# Altium footprint library CS_PcbLib1.PcbLib: 48 footprints (part 1 of 3)
Each footprint in its own frame and in the unit in brackets; x right, y up, seen from the top. Pads: shape width x height; smd on the part's side, far side on the other; paste and mask are expansions set on the pad; w line width, h text height; cw(c..) or ccw(c..) is an arc to the next point about the centre after c.
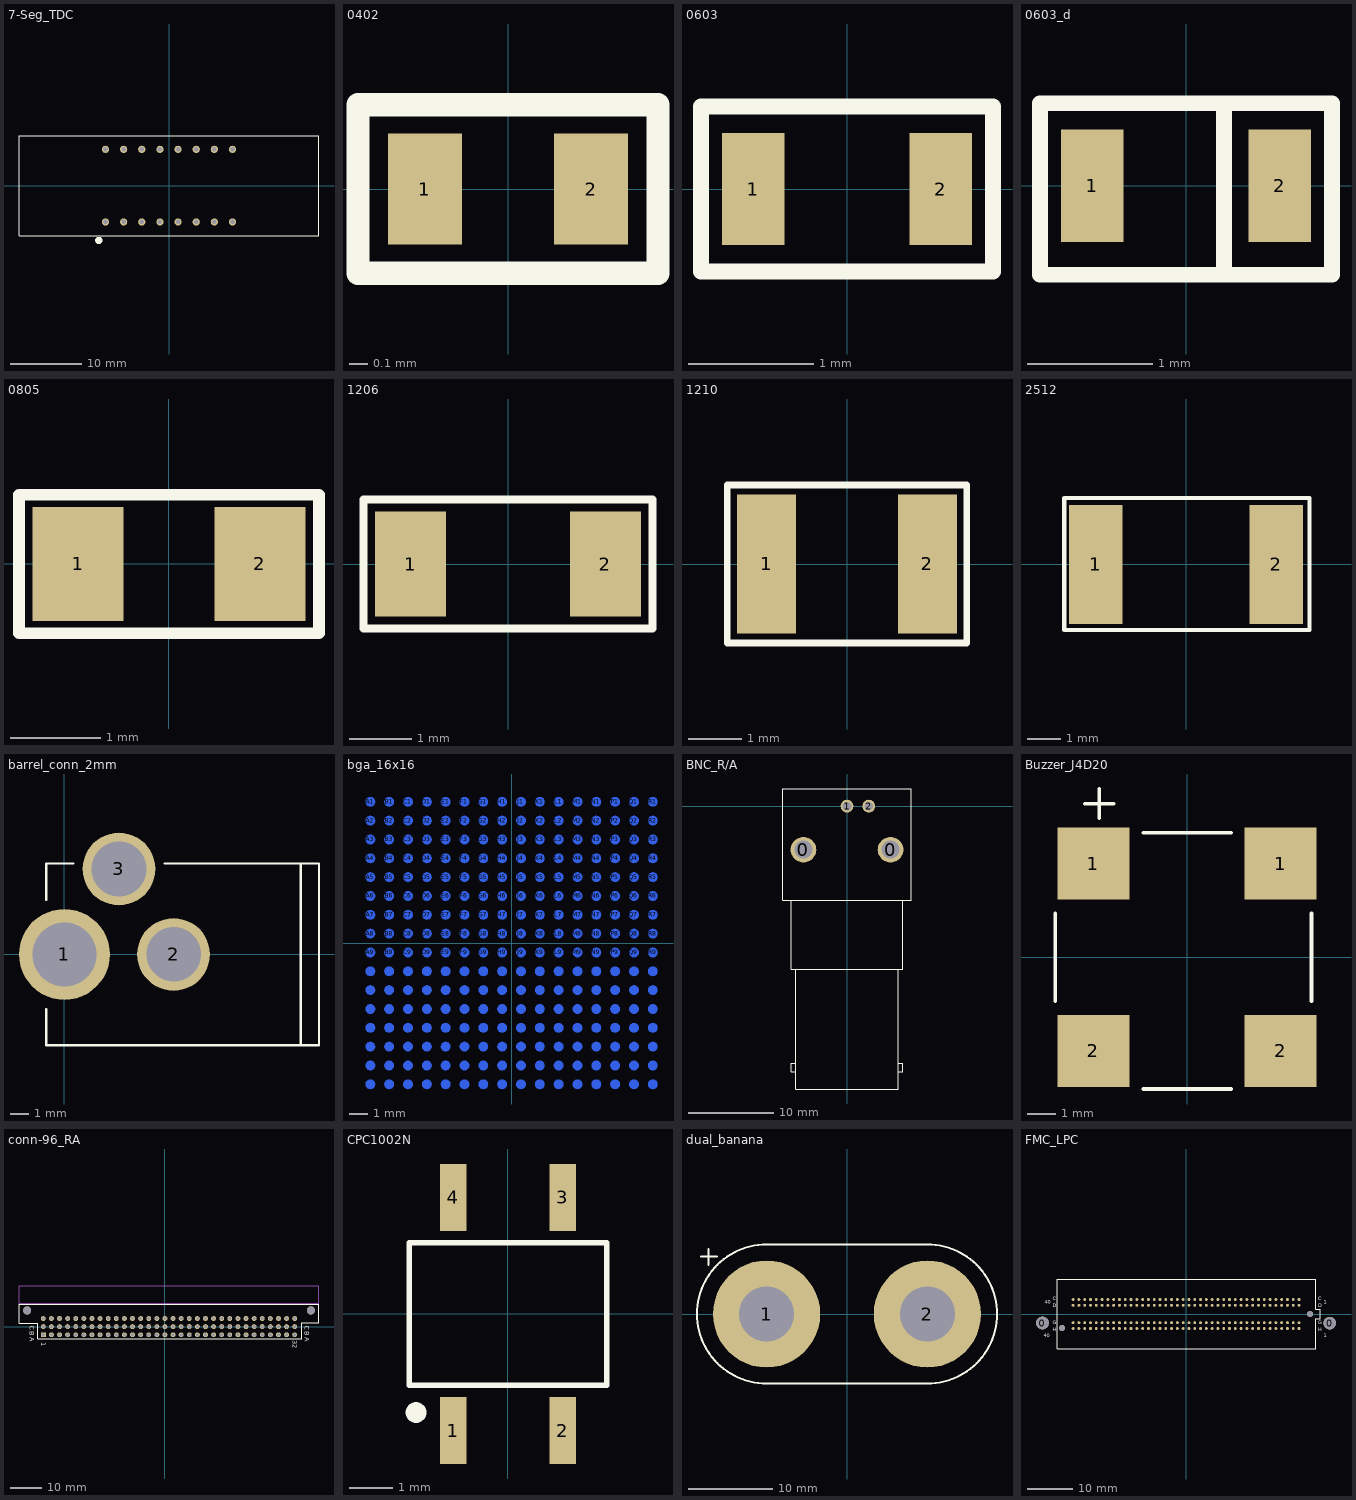
[diagram p0: the footprints below, top view; thin cyan lines are the x and y axes]

## 7-Seg_TDC [mil] "7-segment clock display Vishay TDC series"
pads (16):
  round 40 hole 25: 1(-350,-200) 2(-250,-200) 3(-150,-200) 4(-50,-200) 5(50,-200) 6(150,-200) 7(250,-200) 8(350,-200) 9(350,200) 10(250,200) 11(150,200) 12(50,200) 13(-50,200) 14(-150,200) 15(-250,200) 16(-350,200)
Top Overlay:
  circle w19.68: c-387,-302 r10.44
  lines w5: -826.77,-275.59 -826.77,275.59 826.77,275.59 826.77,-275.59 -826.77,-275.59

## 0402 [mm] "0402 smt"
pads (2):
  rect 0.4x0.6 smd: 1(-0.45,0) 2(0.45,0)
Top Overlay:
  lines w0.127: -0.813,-0.457 0.813,-0.457 0.813,0.457 -0.813,0.457 -0.813,-0.457

## 0603 [mm] "0603 smt"
pads (2):
  rect 0.5x0.9 smd: 1(-0.75,0) 2(0.75,0)
Top Overlay:
  lines w0.127: -1.168,-0.66 -1.168,0.66 1.168,0.66 1.168,-0.66 -1.168,-0.66

## 0603_d [mm] "0603 diode, cathode on pin2"
pads (2):
  rect 0.5x0.9 smd: 1(-0.75,0) 2(0.75,0)
Top Overlay:
  lines w0.127: 0.305,-0.711 0.305,0.66 ; -1.168,-0.711 -1.168,0.66 1.168,0.66 1.168,-0.711 -1.168,-0.711

## 0805 [mm] "chip resistor 0805 case size"
pads (2):
  rect 1x1.25 smd: 1(-1,0) 2(1,0)
Top Overlay:
  lines w0.127: -1.651,-0.762 -1.651,0.762 1.651,0.762 1.651,-0.762 -1.651,-0.762

## 1206 [mm] "chip resistor 1206 case size"
pads (2):
  rect 1.15x1.7 smd: 1(-1.575,0) 2(1.575,0)
Top Overlay:
  lines w0.127: -2.337,-1.041 -2.337,1.041 2.337,1.041 2.337,-1.041 -2.337,-1.041

## 1210 [mm] "Chip Resistor, Body 3.2x2.5mm, IPC High Density"
height 0.9
pads (2):
  rect 1.1x2.6 smd: 1(-1.5,0) 2(1.5,0)
Top Overlay:
  lines w0.127: -2.235,-1.473 2.235,-1.473 2.235,1.473 -2.235,1.473 -2.235,-1.473

## 2512 [mil] "Chip Capacitor, Body 2.54x1.27mm, IPC High Density"
height 51.18
pads (2):
  rect 63x140 smd: 1(-106,0) 2(106,0)
Top Overlay:
  lines w5: -143,-77 -143,78 145,78 145,-77 -143,-77

## barrel_conn_2mm [mm] "Power Barrel connector Jack 2.0mm ID, 5.5mm OD"
pads (3):
  round 5 hole 3.5 unplated mask+0: 1(0,0)
  round 4 hole 3 unplated mask+0: 2(6,0) 3(3,4.7)
Top Overlay:
  lines w0.127: -1,-3 -1,-5 14,-5 14,5 5.5,5 ; -1,3 -1,5 0.5,5 ; 13,-5 13,5

## bga_16x16 [mm] "pads to be balled on bottom side of die breakout board"
pads (256):
  round 0.5 smd far side: A1(-7.5,7.5) A2(-7.5,6.5) A3(-7.5,5.5) A4(-7.5,4.5) A5(-7.5,3.5) A6(-7.5,2.5) A7(-7.5,1.5) A8(-7.5,0.5) A9(-7.5,-0.5) A10(-7.5,-1.5) A11(-7.5,-2.5) A12(-7.5,-3.5) A13(-7.5,-4.5) A14(-7.5,-5.5) A15(-7.5,-6.5) A16(-7.5,-7.5) B1(-6.5,7.5) B2(-6.5,6.5) B3(-6.5,5.5) B4(-6.5,4.5) B5(-6.5,3.5) B6(-6.5,2.5) B7(-6.5,1.5) B8(-6.5,0.5) B9(-6.5,-0.5) B10(-6.5,-1.5) B11(-6.5,-2.5) B12(-6.5,-3.5) B13(-6.5,-4.5) B14(-6.5,-5.5) B15(-6.5,-6.5) B16(-6.5,-7.5) C1(-5.5,7.5) C2(-5.5,6.5) C3(-5.5,5.5) C4(-5.5,4.5) C5(-5.5,3.5) C6(-5.5,2.5) C7(-5.5,1.5) C8(-5.5,0.5) C9(-5.5,-0.5) C10(-5.5,-1.5) C11(-5.5,-2.5) C12(-5.5,-3.5) C13(-5.5,-4.5) C14(-5.5,-5.5) C15(-5.5,-6.5) C16(-5.5,-7.5) D1(-4.5,7.5) D2(-4.5,6.5) D3(-4.5,5.5) D4(-4.5,4.5) D5(-4.5,3.5) D6(-4.5,2.5) D7(-4.5,1.5) D8(-4.5,0.5) D9(-4.5,-0.5) D10(-4.5,-1.5) D11(-4.5,-2.5) D12(-4.5,-3.5) D13(-4.5,-4.5) D14(-4.5,-5.5) D15(-4.5,-6.5) D16(-4.5,-7.5) E1(-3.5,7.5) E2(-3.5,6.5) E3(-3.5,5.5) E4(-3.5,4.5) E5(-3.5,3.5) E6(-3.5,2.5) E7(-3.5,1.5) E8(-3.5,0.5) E9(-3.5,-0.5) E10(-3.5,-1.5) E11(-3.5,-2.5) E12(-3.5,-3.5) E13(-3.5,-4.5) E14(-3.5,-5.5) E15(-3.5,-6.5) E16(-3.5,-7.5) F1(-2.5,7.5) F2(-2.5,6.5) F3(-2.5,5.5) F4(-2.5,4.5) F5(-2.5,3.5) F6(-2.5,2.5) F7(-2.5,1.5) F8(-2.5,0.5) F9(-2.5,-0.5) F10(-2.5,-1.5) F11(-2.5,-2.5) F12(-2.5,-3.5) F13(-2.5,-4.5) F14(-2.5,-5.5) F15(-2.5,-6.5) F16(-2.5,-7.5) G1(-1.5,7.5) G2(-1.5,6.5) G3(-1.5,5.5) G4(-1.5,4.5) G5(-1.5,3.5) G6(-1.5,2.5) G7(-1.5,1.5) G8(-1.5,0.5) G9(-1.5,-0.5) G10(-1.5,-1.5) G11(-1.5,-2.5) G12(-1.5,-3.5) G13(-1.5,-4.5) G14(-1.5,-5.5) G15(-1.5,-6.5) G16(-1.5,-7.5) H1(-0.5,7.5) H2(-0.5,6.5) H3(-0.5,5.5) H4(-0.5,4.5) H5(-0.5,3.5) H6(-0.5,2.5) H7(-0.5,1.5) H8(-0.5,0.5) H9(-0.5,-0.5) H10(-0.5,-1.5) H11(-0.5,-2.5) H12(-0.5,-3.5) H13(-0.5,-4.5) H14(-0.5,-5.5) H15(-0.5,-6.5) H16(-0.5,-7.5) J1(0.5,7.5) J2(0.5,6.5) J3(0.5,5.5) J4(0.5,4.5) J5(0.5,3.5) J6(0.5,2.5) J7(0.5,1.5) J8(0.5,0.5) J9(0.5,-0.5) J10(0.5,-1.5) J11(0.5,-2.5) J12(0.5,-3.5) J13(0.5,-4.5) J14(0.5,-5.5) J15(0.5,-6.5) J16(0.5,-7.5) K1(1.5,7.5) K2(1.5,6.5) K3(1.5,5.5) K4(1.5,4.5) K5(1.5,3.5) K6(1.5,2.5) K7(1.5,1.5) K8(1.5,0.5) K9(1.5,-0.5) K10(1.5,-1.5) K11(1.5,-2.5) K12(1.5,-3.5) K13(1.5,-4.5) K14(1.5,-5.5) K15(1.5,-6.5) K16(1.5,-7.5) L1(2.5,7.5) L2(2.5,6.5) L3(2.5,5.5) L4(2.5,4.5) L5(2.5,3.5) L6(2.5,2.5) L7(2.5,1.5) L8(2.5,0.5) L9(2.5,-0.5) L10(2.5,-1.5) L11(2.5,-2.5) L12(2.5,-3.5) L13(2.5,-4.5) L14(2.5,-5.5) L15(2.5,-6.5) L16(2.5,-7.5) M1(3.5,7.5) M2(3.5,6.5) M3(3.5,5.5) M4(3.5,4.5) M5(3.5,3.5) M6(3.5,2.5) M7(3.5,1.5) M8(3.5,0.5) M9(3.5,-0.5) M10(3.5,-1.5) M11(3.5,-2.5) M12(3.5,-3.5) M13(3.5,-4.5) M14(3.5,-5.5) M15(3.5,-6.5) M16(3.5,-7.5) N1(4.5,7.5) N2(4.5,6.5) N3(4.5,5.5) N4(4.5,4.5) N5(4.5,3.5) N6(4.5,2.5) N7(4.5,1.5) N8(4.5,0.5) N9(4.5,-0.5) N10(4.5,-1.5) N11(4.5,-2.5) N12(4.5,-3.5) N13(4.5,-4.5) N14(4.5,-5.5) N15(4.5,-6.5) N16(4.5,-7.5) P1(5.5,7.5) P2(5.5,6.5) P3(5.5,5.5) P4(5.5,4.5) P5(5.5,3.5) P6(5.5,2.5) P7(5.5,1.5) P8(5.5,0.5) P9(5.5,-0.5) P10(5.5,-1.5) P11(5.5,-2.5) P12(5.5,-3.5) P13(5.5,-4.5) P14(5.5,-5.5) P15(5.5,-6.5) P16(5.5,-7.5) Q1(6.5,7.5) Q2(6.5,6.5) Q3(6.5,5.5) Q4(6.5,4.5) Q5(6.5,3.5) Q6(6.5,2.5) Q7(6.5,1.5) Q8(6.5,0.5) Q9(6.5,-0.5) Q10(6.5,-1.5) Q11(6.5,-2.5) Q12(6.5,-3.5) Q13(6.5,-4.5) Q14(6.5,-5.5) Q15(6.5,-6.5) Q16(6.5,-7.5) R1(7.5,7.5) R2(7.5,6.5) R3(7.5,5.5) R4(7.5,4.5) R5(7.5,3.5) R6(7.5,2.5) R7(7.5,1.5) R8(7.5,0.5) R9(7.5,-0.5) R10(7.5,-1.5) R11(7.5,-2.5) R12(7.5,-3.5) R13(7.5,-4.5) R14(7.5,-5.5) R15(7.5,-6.5) R16(7.5,-7.5)
Bottom Overlay:
  lines w0.178: -8.13,6.21 -8.13,8.18 -5.88,8.18

## BNC_R/A [mm] "Right Angle BNC Connector PCB Mount"
pads (4):
  round 3 hole 2.1 unplated mask+0: 0(-5.08,-5.08) 0(5.08,-5.08)
  round 1.5 hole 1 unplated mask+0: 1(0,0) 2(2.54,0)
Top Overlay:
  lines w0.127: -6.5,-11 -6.5,-19 6.5,-19 6.5,-11 ; -6,-31 -6.5,-31 -6.5,-30 -6,-30 ; -6,-19 -6,-33 6,-33 6,-19 ; 6,-31 6.5,-31 6.5,-30 6,-30 ; -7.5,-11 7.5,-11 7.5,2 -7.5,2 -7.5,-11

## Buzzer_J4D20 [mm] "AUDIO MAGNETIC XDCR 3-5V SMD"
pads (4):
  rect 2.5x2.5 smd: 1(-3.25,3.25) 1(3.25,3.25) 2(-3.25,-3.25) 2(3.25,-3.25)
Top Overlay:
  lines w0.127: -4.572,-1.524 -4.572,1.524 ; -3.556,5.334 -2.54,5.334 ; -3.048,4.826 -3.048,5.842 ; -1.524,-4.572 1.524,-4.572 ; -1.524,4.318 1.524,4.318 ; 4.318,-1.524 4.318,1.524

## conn-96_RA [mil] "96-pin connector, 3 rows, right angle"
pads (98):
  rect 60x60 hole 40: A1(-1500,-100)
  round 60 hole 40: A2(-1400,-100) A3(-1300,-100) A4(-1200,-100) A5(-1100,-100) A6(-1000,-100) A7(-900,-100) A8(-800,-100) A9(-700,-100) A10(-600,-100) A11(-500,-100) A12(-400,-100) A13(-300,-100) A14(-200,-100) A15(-100,-100) A16(0,-100) A17(100,-100) A18(200,-100) A19(300,-100) A20(400,-100) A21(500,-100) A22(600,-100) A23(700,-100) A24(800,-100) A25(900,-100) A26(1000,-100) A27(1100,-100) A28(1200,-100) A29(1300,-100) A30(1400,-100) A31(1500,-100) A32(1600,-100) B1(-1500,0) B2(-1400,0) B3(-1300,0) B4(-1200,0) B5(-1100,0) B6(-1000,0) B7(-900,0) B8(-800,0) B9(-700,0) B10(-600,0) B11(-500,0) B12(-400,0) B13(-300,0) B14(-200,0) B15(-100,0) B16(0,0) B17(100,0) B18(200,0) B19(300,0) B20(400,0) B21(500,0) B22(600,0) B23(700,0) B24(800,0) B25(900,0) B26(1000,0) B27(1100,0) B28(1200,0) B29(1300,0) B30(1400,0) B31(1500,0) B32(1600,0) C1(-1500,100) C2(-1400,100) C3(-1300,100) C4(-1200,100) C5(-1100,100) C6(-1000,100) C7(-900,100) C8(-800,100) C9(-700,100) C10(-600,100) C11(-500,100) C12(-400,100) C13(-300,100) C14(-200,100) C15(-100,100) C16(0,100) C17(100,100) C18(200,100) C19(300,100) C20(400,100) C21(500,100) C22(600,100) C23(700,100) C24(800,100) C25(900,100) C26(1000,100) C27(1100,100) C28(1200,100) C29(1300,100) C30(1400,100) C31(1500,100) C32(1600,100)
  round 100 hole 100: C33(-1700,200) C34(1800,200)
Top Overlay:
  lines w10: -1800,40 -1800,275 1900,275 1900,50 1690,50 1690,-150 1650,-150 -1570,-150 -1570,40 -1800,40
  text "C" at 1726,10 h60
  text "B" at 1726,-59 h60
  text "A" at 1726,-133 h60
  text "A" at -1666,-132 h60
  text "B" at -1666,-58 h60
  text "C" at -1666,11 h60
  text "32" at 1578,-169 h60
  text "1" at -1527,-190 h60
Assembly Top:
  lines w10: 1900,500 1900,290 -1800,290 -1800,502 1900,502

## CPC1002N [mil] "Optocoupler SMT"
pads (4):
  rect 24x61 smd: 1(-50,-106.5) 2(50,-106.5) 3(50,106.5) 4(-50,106.5)
Top Overlay:
  circle w10: c-84,-90 r4.47
  lines w5: -90,-65 90,-65 90,65 -90,65 -90,-65

## dual_banana [mil] "dual banana jack - bolt-on"
pads (2):
  round 500 hole 257 mask+0: 1(-375,0) 2(375,0)
Top Overlay:
  lines w10: -681,269 -608,269 ; -646,229 -646,302 ; -375,-325 cw(c-375,0) -375,325 375,325 cw(c375,0) 375,-325 -375,-325

## FMC_LPC [mm] "FMC low pin count connector that mates to Xilinx zedboard"
pads (164):
  round 2.8 hole 2.8 unplated mask+0: 0(-31.5,-1.985)
  round 1.27 hole 1.27 unplated mask+0: 0(-27.191,-3.048) 0(27.191,0)
  round 2.743 hole 2.743 unplated mask+0: 0(31.5,-1.985)
  round 0.635 smd mask+0: C1(24.765,3.175) C2(23.495,3.175) C3(22.225,3.175) C4(20.955,3.175) C5(19.685,3.175) C6(18.415,3.175) C7(17.145,3.175) C8(15.875,3.175) C9(14.605,3.175) C10(13.335,3.175) C11(12.065,3.175) C12(10.795,3.175) C13(9.525,3.175) C14(8.255,3.175) C15(6.985,3.175) C16(5.715,3.175) C17(4.445,3.175) C18(3.175,3.175) C19(1.905,3.175) C20(0.635,3.175) C21(-0.635,3.175) C22(-1.905,3.175) C23(-3.175,3.175) C24(-4.445,3.175) C25(-5.715,3.175) C26(-6.985,3.175) C27(-8.255,3.175) C28(-9.525,3.175) C29(-10.795,3.175) C30(-12.065,3.175) C31(-13.335,3.175) C32(-14.605,3.175) C33(-15.875,3.175) C34(-17.145,3.175) C35(-18.415,3.175) C36(-19.685,3.175) C37(-20.955,3.175) C38(-22.225,3.175) C39(-23.495,3.175) C40(-24.765,3.175) D1(24.765,1.905) D2(23.495,1.905) D3(22.225,1.905) D4(20.955,1.905) D5(19.685,1.905) D6(18.415,1.905) D7(17.145,1.905) D8(15.875,1.905) D9(14.605,1.905) D10(13.335,1.905) D11(12.065,1.905) D12(10.795,1.905) D13(9.525,1.905) D14(8.255,1.905) D15(6.985,1.905) D16(5.715,1.905) D17(4.445,1.905) D18(3.175,1.905) D19(1.905,1.905) D20(0.635,1.905) D21(-0.635,1.905) D22(-1.905,1.905) D23(-3.175,1.905) D24(-4.445,1.905) D25(-5.715,1.905) D26(-6.985,1.905) D27(-8.255,1.905) D28(-9.525,1.905) D29(-10.795,1.905) D30(-12.065,1.905) D31(-13.335,1.905) D32(-14.605,1.905) D33(-15.875,1.905) D34(-17.145,1.905) D35(-18.415,1.905) D36(-19.685,1.905) D37(-20.955,1.905) D38(-22.225,1.905) D39(-23.495,1.905) D40(-24.765,1.905) G1(24.765,-1.905) G2(23.495,-1.905) G3(22.225,-1.905) G4(20.955,-1.905) G5(19.685,-1.905) G6(18.415,-1.905) G7(17.145,-1.905) G8(15.875,-1.905) G9(14.605,-1.905) G10(13.335,-1.905) G11(12.065,-1.905) G12(10.795,-1.905) G13(9.525,-1.905) G14(8.255,-1.905) G15(6.985,-1.905) G16(5.715,-1.905) G17(4.445,-1.905) G18(3.175,-1.905) G19(1.905,-1.905) G20(0.635,-1.905) G21(-0.635,-1.905) G22(-1.905,-1.905) G23(-3.175,-1.905) G24(-4.445,-1.905) G25(-5.715,-1.905) G26(-6.985,-1.905) G27(-8.255,-1.905) G28(-9.525,-1.905) G29(-10.795,-1.905) G30(-12.065,-1.905) G31(-13.335,-1.905) G32(-14.605,-1.905) G33(-15.875,-1.905) G34(-17.145,-1.905) G35(-18.415,-1.905) G36(-19.685,-1.905) G37(-20.955,-1.905) G38(-22.225,-1.905) G39(-23.495,-1.905) G40(-24.765,-1.905) H1(24.765,-3.175) H2(23.495,-3.175) H3(22.225,-3.175) H4(20.955,-3.175) H5(19.685,-3.175) H6(18.415,-3.175) H7(17.145,-3.175) H8(15.875,-3.175) H9(14.605,-3.175) H10(13.335,-3.175) H11(12.065,-3.175) H12(10.795,-3.175) H13(9.525,-3.175) H14(8.255,-3.175) H15(6.985,-3.175) H16(5.715,-3.175) H17(4.445,-3.175) H18(3.175,-3.175) H19(1.905,-3.175) H20(0.635,-3.175) H21(-0.635,-3.175) H22(-1.905,-3.175) H23(-3.175,-3.175) H24(-4.445,-3.175) H25(-5.715,-3.175) H26(-6.985,-3.175) H27(-8.255,-3.175) H28(-9.525,-3.175) H29(-10.795,-3.175) H30(-12.065,-3.175) H31(-13.335,-3.175) H32(-14.605,-3.175) H33(-15.875,-3.175) H34(-17.145,-3.175) H35(-18.415,-3.175) H36(-19.685,-3.175) H37(-20.955,-3.175) H38(-22.225,-3.175) H39(-23.495,-3.175) H40(-24.765,-3.175)
Top Overlay:
  lines w0.127: -28.194,-7.62 -28.194,7.62 28.448,7.62 28.448,7.366 28.448,1.016 29.464,1.016 29.464,-1.016 28.448,-1.016 28.448,-7.62 -28.194,-7.62
  text "C" at 28.956,3.048 h0.76
  text "D" at 28.956,1.524 h0.76
  text "G" at 28.956,-2.286 h0.76
  text "H" at 28.956,-3.81 h0.76
  text "1" at 30.226,2.286 h0.76
  text "40" at -30.988,2.286 h0.76
  text "40" at -31.242,-5.08 h0.76
  text "1" at 30.226,-5.08 h0.76
  text "H" at -29.21,-3.81 h0.76
  text "G" at -29.21,-2.286 h0.76
  text "D" at -29.21,1.524 h0.76
  text "C" at -29.21,3.048 h0.76